# EAGLE library part DS1338Z-33+ (library Mainboard)
Real Time Clock Serial 56Byte Maxim DS1338Z-33+ Real Time Clock Battery Backup, Calendar, Clock, NV Timekeeping RAM, 56B RAM 8-Pin SOIC Source: Datasheet <http://docs-europe.electrocomponents.com/webdocs/0f62/0900766b80f62fdd.pdf>
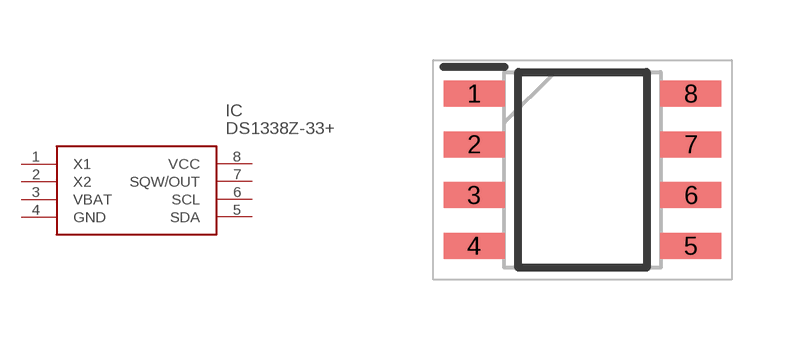
[diagram p1: symbol with the pads of SOIC127P600X175-8N; footprint SOIC127P600X175-8N]

Designator prefix IC

## DS1338Z-33+ (DESCRIPTION: Real Time Clock Serial 56Byte Maxim DS1338Z-33+ Real Time Clock Battery Backup, Calendar, Clock, NV Timekeeping RAM, 56B RAM 8-Pin SOIC; HEIGHT: 1.75mm; MANUFACTURER_NAME: Maxim Integrated; MANUFACTURER_PART_NUMBER: DS1338Z-33+; RS_PART_NUMBER: 7327368; SUPPLIER_NAME: RS)  [SOIC127P600X175-8N]
1  X1  in
2  X2  in
3  VBAT  in
4  GND  in
5  SDA  in
6  SCL  in
7  SQW/OUT  in
8  VCC  in

## Footprint SOIC127P600X175-8N (pad centres in mm)
8 SO
smd 1.525 x 0.65: 1 -2.712,1.905; 2 -2.712,0.635; 3 -2.712,-0.635; 4 -2.712,-1.905; 5 2.712,-1.905; 6 2.712,-0.635; 7 2.712,0.635; 8 2.712,1.905